# Altium schematic symbol library RES 11.5k 1_8W.Schlib: 1 symbol
Pins are listed as number, name and electrical type; pins without a type are passive.

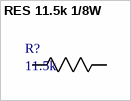
[diagram p0: symbol RES 11.5k 1/8W]

## RES 11.5k 1/8W
designator R?, comment 11.5k
RES SMD 11.5K OHM 0.1% 1/8W 0805 Thin Film
pins: 1 R1, 2 R2